# Altium schematic symbol library PIC16F720.Schlib: 1 symbol
Pins are listed as number, name and electrical type; pins without a type are passive.

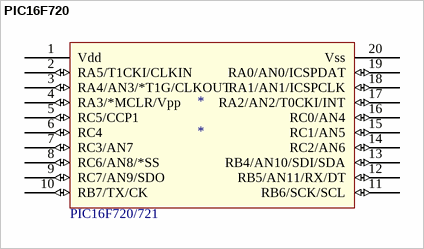
[diagram p0: symbol PIC16F720]

## PIC16F720
designator *
pins: 1 Vdd (power), 2 RA5/T1CKI/CLKIN (io), 3 RA4/AN3/*T1G/CLKOUT (io), 4 RA3/*MCLR/Vpp (io), 5 RC5/CCP1 (io), 6 RC4 (io), 7 RC3/AN7 (io), 8 RC6/AN8/*SS (io), 9 RC7/AN9/SDO (io), 10 RB7/TX/CK (io), 11 RB6/SCK/SCL (io), 12 RB5/AN11/RX/DT (io), 13 RB4/AN10/SDI/SDA (io), 14 RC2/AN6 (io), 15 RC1/AN5 (io), 16 RC0/AN4 (io), 17 RA2/AN2/T0CKI/INT (io), 18 RA1/AN1/ICSPCLK (io), 19 RA0/AN0/ICSPDAT (io), 20 Vss (power)
text: PIC16F720/721